# Altium schematic symbol library QBLP595-IG5.SchLib: 1 symbol
Pins are listed as number, name and electrical type; pins without a type are passive.

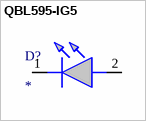
[diagram p0: symbol QBL595-IG5]

## QBL595-IG5
designator D?
LED Green Clear 0402 SMD
footprint LED 0402_1005 GREEN (Chip Diode, 2-Leads, Body 1.00x0.50mm, IPC Medium Density)
pins: 1 K, 2 A